# Altium footprint library INDUCTOR_1515.PcbLib: 1 footprints
Each footprint in its own frame and in the unit in brackets; x right, y up, seen from the top. Pads: shape width x height; smd on the part's side, far side on the other; paste and mask are expansions set on the pad; w line width, h text height; cw(c..) or ccw(c..) is an arc to the next point about the centre after c.
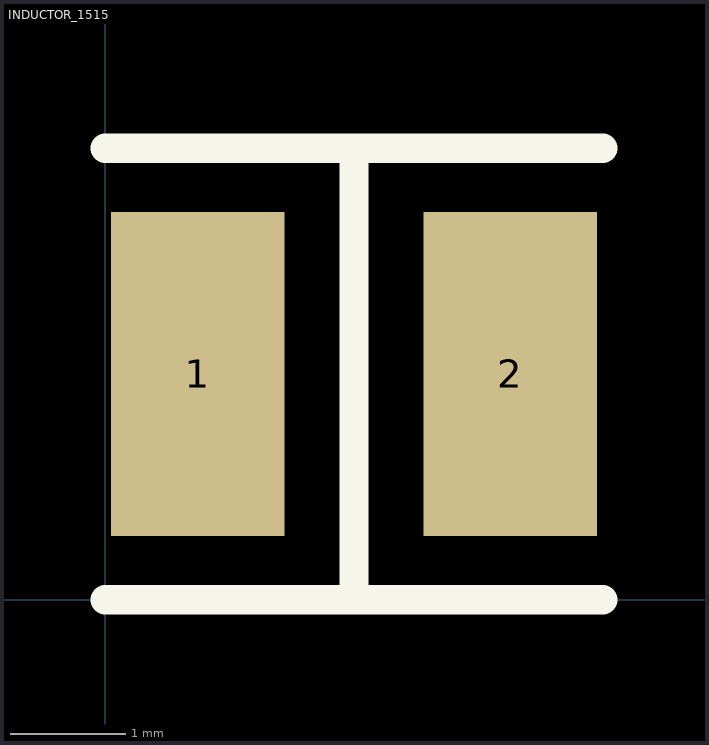
[diagram p0: the footprint, top view; thin cyan lines are the x and y axes]

## INDUCTOR_1515 [mm]
pads (2):
  rect 1.5x2.8 smd: 1(0.8,1.95) 2(3.5,1.95)
Top Overlay:
  lines w0.254: 0,0 4.3,0 ; 0,3.9 4.3,3.9 ; 2.15,0 2.15,3.9